# EAGLE library part ADXL346 (library Mine)
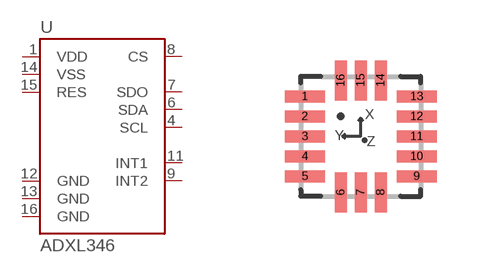
[diagram p4: symbol with the pads of ADXL346; footprint ADXL346]

Designator prefix U

## ADXL346  [ADXL346]
1  VDD
4  SCL
6  SDA
7  SDO
8  CS
9  INT2
11  INT1
12  GND
13  GND
14  VSS
15  RES
16  GND

## Footprint ADXL346 (pad centres in mm)
smd 1 x 0.3: 1 -1.4,1; 2 -1.4,0.5; 3 -1.4,0; 4 -1.4,-0.5; 5 -1.4,-1; 9 1.4,-1; 10 1.4,-0.5; 11 1.4,0; 12 1.4,0.5; 13 1.4,1
smd 0.3 x 1: 6 -0.5,-1.4; 7 0,-1.4; 8 0.5,-1.4; 14 0.5,1.4; 15 0,1.4; 16 -0.5,1.4